# Altium integrated library TI_Logic_Specialty_Logic.IntLib: 2504 symbols (part 45 of 81)
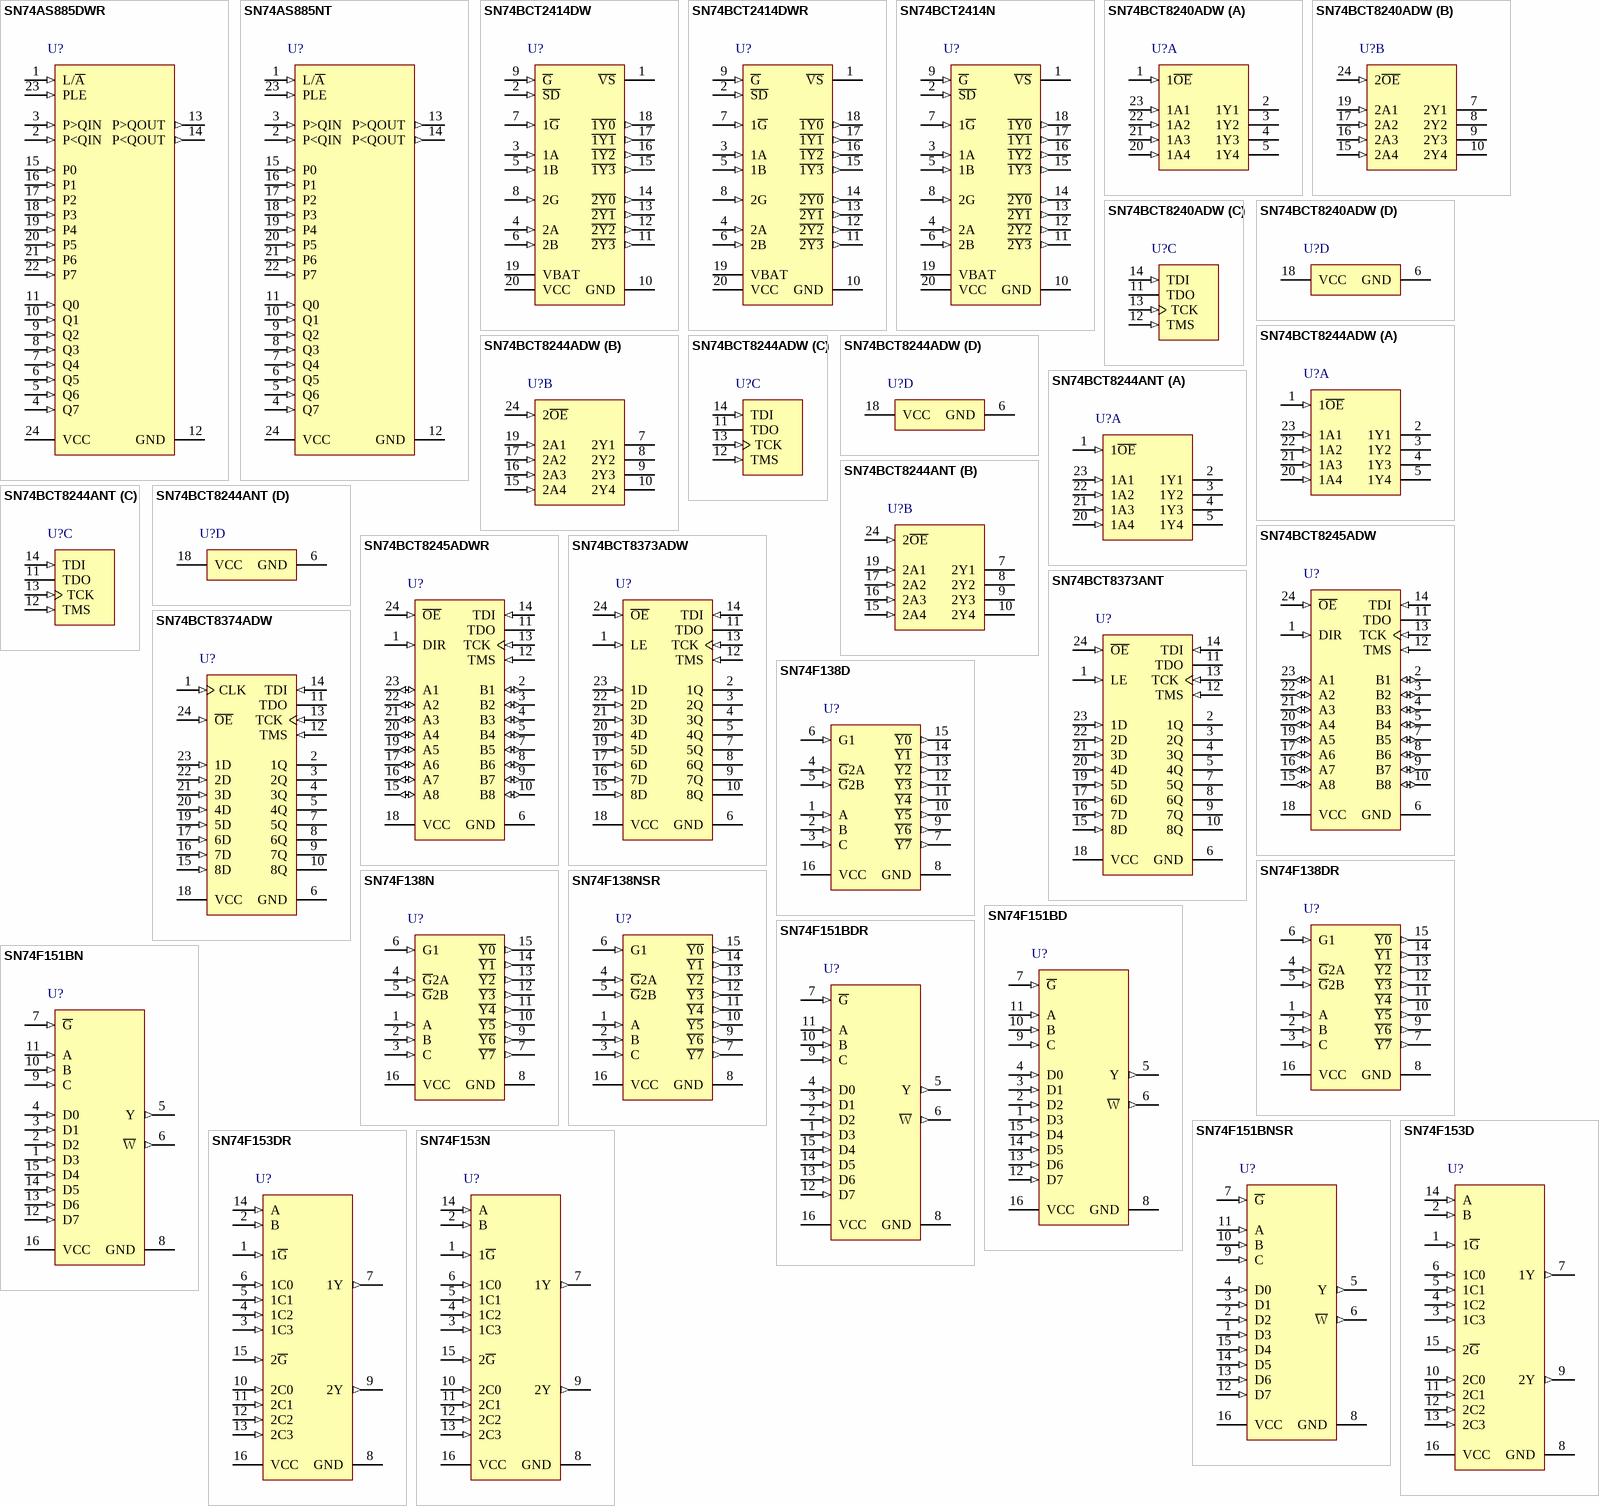
[diagram p148: symbols SN74AS885DWR to SN74F153N]

## SN74BCT8373ANT
designator U?
IEEE Std 1149.1 (JTAG) Boundary-Scan Test Device With Octal D-Type Latches, NT0024A, TUBE; Generic Part Number: SN74BCT8373A; Manufacturer: Texas Instruments; PartNumber: SN74BCT8373ANT; VCC(Min)(V): 4.5; VCC(Max)(V): 5.5; Output Type: TTL; ICC @ Nom Voltage(Max)(mA): 52; Bits(#): 8; F @ Nom Voltage(Max)(Mhz): 70; Rating: Catalog; Technology Family: BCT; Voltage(Nom)(V): 5; Output Drive (IOL/IOH)(Max)(mA): 64/-15; Output Logic: True; tpd @ Nom Voltage(Max)(ns): 9.5; DatasheetVersion: SCBS044F; PackageReference: NT0024A; Supplier 1: Mouser; Supplier Part Number 1: 595-SN74BCT8373ANT; Supplier 2: Digi-Key; Supplier Part Number 2: 296-33848-5-ND; Input Type: TTL; Operating Temperature Range(C): 0 to 70; ComponentLink1Description: Manufacturer URL; ComponentLink1URL: http://www.ti.com/; ComponentLink2Description: Datasheet; ComponentLink2URL: http://www.ti.com/lit/ds/symlink/sn74bct8373a.pdf
footprint NT0024A (DIP, 24-Leads, Body 32.05x7.1mm, Pitch 2.54mm)
pins: 1 LE (in) "Normal-function latch-enable input. See function table for normal-mode logic. An internal pullup forces LE to a high level if left unconnected.", 2 1Q (hiz) "Normal-function data outputs. See function table for normal-mode logic", 3 2Q (hiz) "Normal-function data outputs. See function table for normal-mode logic", 4 3Q (hiz) "Normal-function data outputs. See function table for normal-mode logic", 5 4Q (hiz) "Normal-function data outputs. See function table for normal-mode logic", 6 GND (power) "Ground", 7 5Q (hiz) "Normal-function data outputs. See function table for normal-mode logic", 8 6Q (hiz) "Normal-function data outputs. See function table for normal-mode logic", 9 7Q (hiz) "Normal-function data outputs. See function table for normal-mode logic", 10 8Q (hiz) "Normal-function data outputs. See function table for normal-mode logic", 11 TDO (hiz) "Test data output. One of four terminals required by IEEE Standard 1149.1-1990. TDO is the serial output for shifting data through the instruction register or selected data register. An internal pullup forces TDO to a high (See Datasheet)", 12 TMS (in) "Test mode select. One of four terminals required by IEEE Standard 1149.1-1990. TMS directs the device through its TAP controller states. An internal pullup forces TMS to a high level if left unconnected. The TMS pin also (See Datasheet)", 13 TCK (in) "Test clock. One of four terminals required by IEEE Standard 1149.1-1990. Test operations of the device are synchronous to TCK. Data is captured on the rising edge of TCK and outputs change on the falling edge of TCK. An (See Datasheet)", 14 TDI (in) "Test data input. One of four terminals required by IEEE Standard 1149.1-1990. TDI is the serial input for shifting data through the instruction register or selected data register. An internal pullup forces TDI to a high (See Datasheet)", 15 8D (in) "Normal-function data inputs. See function table for normal-mode logic. Internal pullups force these inputs to a high level if left unconnected.", 16 7D (in) "Normal-function data inputs. See function table for normal-mode logic. Internal pullups force these inputs to a high level if left unconnected.", 17 6D (in) "Normal-function data inputs. See function table for normal-mode logic. Internal pullups force these inputs to a high level if left unconnected.", 18 VCC (power) "Supply voltage", 19 5D (in) "Normal-function data inputs. See function table for normal-mode logic. Internal pullups force these inputs to a high level if left unconnected.", 20 4D (in) "Normal-function data inputs. See function table for normal-mode logic. Internal pullups force these inputs to a high level if left unconnected.", 21 3D (in) "Normal-function data inputs. See function table for normal-mode logic. Internal pullups force these inputs to a high level if left unconnected.", 22 2D (in) "Normal-function data inputs. See function table for normal-mode logic. Internal pullups force these inputs to a high level if left unconnected.", 23 1D (in) "Normal-function data inputs. See function table for normal-mode logic. Internal pullups force these inputs to a high level if left unconnected.", 24 ~{OE} (in) "Normal-function output-enable input. See function table for normal-mode logic. An internal pullup forces O\E\ to a high level if left unconnected."

## SN74BCT8374ADW
designator U?
Scan Test Device With Octal D-Type Edge-Triggered Flip-Flops, DW0024A, TUBE; Generic Part Number: SN74BCT8374A; Manufacturer: Texas Instruments; PartNumber: SN74BCT8374ADW; VCC(Min)(V): 4.5; VCC(Max)(V): 5.5; Output Type: TTL; ICC @ Nom Voltage(Max)(mA): 52; Bits(#): 8; F @ Nom Voltage(Max)(Mhz): 70; Rating: Catalog; Technology Family: BCT; Voltage(Nom)(V): 5; Output Drive (IOL/IOH)(Max)(mA): 64/-15; Output Logic: True; tpd @ Nom Voltage(Max)(ns): 10; DatasheetVersion: SCBS045E; PackageReference: DW0024A; Supplier 1: Mouser; Supplier Part Number 1: 595-SN74BCT8374ADW; Supplier 2: Digi-Key; Supplier Part Number 2: 296-33849-5-ND; Input Type: TTL; Operating Temperature Range(C): 0 to 70; ComponentLink1Description: Manufacturer URL; ComponentLink1URL: http://www.ti.com/; ComponentLink2Description: Datasheet; ComponentLink2URL: http://www.ti.com/lit/ds/symlink/sn74bct8374a.pdf
footprint DW0024A_N (SOIC, 24-Leads, Body 15.6x7.6mm, Pitch 1.27mm, IPC Medium Density)
footprint DW0024A_M (SOIC, 24-Leads, Body 15.6x7.6mm, Pitch 1.27mm, IPC Low Density)
footprint DW0024A_L (SOIC, 24-Leads, Body 15.6x7.6mm, Pitch 1.27mm, IPC High Density)
pins: 1 CLK (in) "Normal-function clock input. See function table for normal-mode logic. An internal pullup forces CLK to a high level if left unconnected.", 2 1Q (hiz) "Normal-function data outputs. See function table for normal-mode logic.", 3 2Q (hiz) "Normal-function data outputs. See function table for normal-mode logic.", 4 3Q (hiz) "Normal-function data outputs. See function table for normal-mode logic.", 5 4Q (hiz) "Normal-function data outputs. See function table for normal-mode logic.", 6 GND (power) "Ground", 7 5Q (hiz) "Normal-function data outputs. See function table for normal-mode logic.", 8 6Q (hiz) "Normal-function data outputs. See function table for normal-mode logic.", 9 7Q (hiz) "Normal-function data outputs. See function table for normal-mode logic.", 10 8Q (hiz) "Normal-function data outputs. See function table for normal-mode logic.", 11 TDO (hiz) "Test data output. One of four terminals required by IEEE Standard 1149.1-1990. TDO is the serial output for shifting data through the instruction register or selected data register. An internal pullup forces TDO to a high (See Datasheet)", 12 TMS (in) "Test mode select. One of four terminals required by IEEE Standard 1149.1-1990. TMS directs the device through its TAP controller states. An internal pullup forces TMS to a high level if left unconnected. TMS also provides (See Datasheet)", 13 TCK (in) "Test clock. One of four terminals required by IEEE Standard 1149.1-1990. Test operations of the device are synchronous to TCK. Data is captured on the rising edge of TCK and outputs change on the falling edge of TCK. An (See Datasheet)", 14 TDI (in) "Test data input. One of four terminals required by IEEE Standard 1149.1-1990. TDI is the serial input for shifting data through the instruction register or selected data register. An internal pullup forces TDI to a high (See Datasheet)", 15 8D (in) "Normal-function data inputs. See function table for normal-mode logic. Internal pullups force these inputs to a high level if left unconnected.", 16 7D (in) "Normal-function data inputs. See function table for normal-mode logic. Internal pullups force these inputs to a high level if left unconnected.", 17 6D (in) "Normal-function data inputs. See function table for normal-mode logic. Internal pullups force these inputs to a high level if left unconnected.", 18 VCC (power) "Supply voltage", 19 5D (in) "Normal-function data inputs. See function table for normal-mode logic. Internal pullups force these inputs to a high level if left unconnected.", 20 4D (in) "Normal-function data inputs. See function table for normal-mode logic. Internal pullups force these inputs to a high level if left unconnected.", 21 3D (in) "Normal-function data inputs. See function table for normal-mode logic. Internal pullups force these inputs to a high level if left unconnected.", 22 2D (in) "Normal-function data inputs. See function table for normal-mode logic. Internal pullups force these inputs to a high level if left unconnected.", 23 1D (in) "Normal-function data inputs. See function table for normal-mode logic. Internal pullups force these inputs to a high level if left unconnected.", 24 ~{OE} (in) "Normal-function output-enable input. See function table for normal-mode logic. An internal pullup forces OE to a high level if left unconnected."

## SN74F138D
designator U?
3-line to 8-line decoder / demultiplexer, D0016A, TUBE; Generic Part Number: SN74F138; Manufacturer: Texas Instruments; PartNumber: SN74F138D; VCC(Min)(V): 4.5; VCC(Max)(V): 5.5; ICC @ Nom Voltage(Max)(mA): 20; F @ Nom Voltage(Max)(Mhz): 70; Configuration: 3：8; Channels(#): 1; Rating: Military; Technology Family: F; Voltage(Nom)(V): 5; Schmitt Trigger: No; Output Drive (IOL/IOH)(Max)(mA): 20/-1; tpd @ Nom Voltage(Max)(ns): 9; DatasheetVersion: SDFS051B; PackageReference: D0016A; Supplier 1: Mouser; Supplier Part Number 1: 595-SN74F138D; Supplier 2: Digi-Key; Supplier Part Number 2: 296-3551-5-ND; Function: Decoder/Demultiplexer; Operating Temperature Range(C): 0 to 70; Type: Standard; Code_JEDEC: MS-012 variation AC; ComponentLink1Description: Manufacturer URL; ComponentLink1URL: http://www.ti.com/; ComponentLink2Description: Datasheet; ComponentLink2URL: http://www.ti.com/lit/ds/symlink/sn74f138.pdf; ComponentLink3Description: Package Specification; ComponentLink3URL: http://www.ti.com/lit/ml/mpds178g/mpds178g.pdf
footprint D0016A_N (SOIC, 16-Leads, Body 10x4mm, Pitch 1.27mm, IPC Medium Density)
footprint D0016A_M (SOIC, 16-Leads, Body 10x4mm, Pitch 1.27mm, IPC Low Density)
footprint D0016A_L (SOIC, 16-Leads, Body 10x4mm, Pitch 1.27mm, IPC High Density)
pins: 1 A (in), 2 B (in), 3 C (in), 4 ~{G}2A (in), 5 ~{G}2B (in), 6 G1 (in), 7 ~{Y7} (out), 8 GND (power), 9 ~{Y6} (out), 10 ~{Y5} (out), 11 ~{Y4} (out), 12 ~{Y3} (out), 13 ~{Y2} (out), 14 ~{Y1} (out), 15 ~{Y0} (out), 16 VCC (power)

## SN74F138DR
designator U?
3-line to 8-line decoder / demultiplexer, D0016A, LARGE T&R; Generic Part Number: SN74F138; Manufacturer: Texas Instruments; PartNumber: SN74F138DR; VCC(Min)(V): 4.5; VCC(Max)(V): 5.5; ICC @ Nom Voltage(Max)(mA): 20; F @ Nom Voltage(Max)(Mhz): 70; Configuration: 3：8; Channels(#): 1; Rating: Military; Technology Family: F; Voltage(Nom)(V): 5; Schmitt Trigger: No; Output Drive (IOL/IOH)(Max)(mA): 20/-1; tpd @ Nom Voltage(Max)(ns): 9; DatasheetVersion: SDFS051B; PackageReference: D0016A; Supplier 1: Mouser; Supplier Part Number 1: 595-SN74F138DR; Supplier 2: Digi-Key; Supplier Part Number 2: 296-14805-2-ND; Supplier 3: Digi-Key; Supplier Part Number 3: 296-14805-1-ND; Supplier 4: Digi-Key; Supplier Part Number 4: 296-14805-6-ND; Function: Decoder/Demultiplexer; Operating Temperature Range(C): 0 to 70; Type: Standard; Code_JEDEC: MS-012 variation AC; ComponentLink1Description: Manufacturer URL; ComponentLink1URL: http://www.ti.com/; ComponentLink2Description: Datasheet; ComponentLink2URL: http://www.ti.com/lit/ds/symlink/sn74f138.pdf; ComponentLink3Description: Package Specification; ComponentLink3URL: http://www.ti.com/lit/ml/mpds178g/mpds178g.pdf
footprint D0016A_N (SOIC, 16-Leads, Body 10x4mm, Pitch 1.27mm, IPC Medium Density)
footprint D0016A_M (SOIC, 16-Leads, Body 10x4mm, Pitch 1.27mm, IPC Low Density)
footprint D0016A_L (SOIC, 16-Leads, Body 10x4mm, Pitch 1.27mm, IPC High Density)
pins: 1 A (in), 2 B (in), 3 C (in), 4 ~{G}2A (in), 5 ~{G}2B (in), 6 G1 (in), 7 ~{Y7} (out), 8 GND (power), 9 ~{Y6} (out), 10 ~{Y5} (out), 11 ~{Y4} (out), 12 ~{Y3} (out), 13 ~{Y2} (out), 14 ~{Y1} (out), 15 ~{Y0} (out), 16 VCC (power)

## SN74F138N
designator U?
3-line to 8-line decoder / demultiplexer, N0016A, TUBE; Generic Part Number: SN74F138; Manufacturer: Texas Instruments; PartNumber: SN74F138N; VCC(Min)(V): 4.5; VCC(Max)(V): 5.5; ICC @ Nom Voltage(Max)(mA): 20; F @ Nom Voltage(Max)(Mhz): 70; Configuration: 3：8; Channels(#): 1; Rating: Military; Technology Family: F; Voltage(Nom)(V): 5; Schmitt Trigger: No; Output Drive (IOL/IOH)(Max)(mA): 20/-1; tpd @ Nom Voltage(Max)(ns): 9; DatasheetVersion: SDFS051B; PackageReference: N0016A; Supplier 1: Mouser; Supplier Part Number 1: 595-SN74F138N; Supplier 2: Digi-Key; Supplier Part Number 2: 296-3552-5-ND; Function: Decoder/Demultiplexer; Operating Temperature Range(C): 0 to 70; Type: Standard; Code_JEDEC: MS-001; ComponentLink1Description: Manufacturer URL; ComponentLink1URL: http://www.ti.com/; ComponentLink2Description: Datasheet; ComponentLink2URL: http://www.ti.com/lit/ds/symlink/sn74f138.pdf; ComponentLink3Description: Package Specification; ComponentLink3URL: http://www.ti.com/lit/ml/mpdi002c/mpdi002c.pdf
footprint N0016A (DIP, 16-Leads, Body 19.7x6.6mm, Pitch 2.54mm)
pins: 1 A (in), 2 B (in), 3 C (in), 4 ~{G}2A (in), 5 ~{G}2B (in), 6 G1 (in), 7 ~{Y7} (out), 8 GND (power), 9 ~{Y6} (out), 10 ~{Y5} (out), 11 ~{Y4} (out), 12 ~{Y3} (out), 13 ~{Y2} (out), 14 ~{Y1} (out), 15 ~{Y0} (out), 16 VCC (power)

## SN74F138NSR
designator U?
3-line to 8-line decoder / demultiplexer, NS0016A, LARGE T&R; Generic Part Number: SN74F138; Manufacturer: Texas Instruments; PartNumber: SN74F138NSR; VCC(Min)(V): 4.5; VCC(Max)(V): 5.5; ICC @ Nom Voltage(Max)(mA): 20; F @ Nom Voltage(Max)(Mhz): 70; Configuration: 3：8; Channels(#): 1; Rating: Military; Technology Family: F; Voltage(Nom)(V): 5; Schmitt Trigger: No; Output Drive (IOL/IOH)(Max)(mA): 20/-1; tpd @ Nom Voltage(Max)(ns): 9; DatasheetVersion: SDFS051B; PackageReference: NS0016A; Supplier 1: Mouser; Supplier Part Number 1: 595-SN74F138NSR; Supplier 2: Digi-Key; Supplier Part Number 2: 296-24981-2-ND; Supplier 3: Digi-Key; Supplier Part Number 3: 296-24981-1-ND; Supplier 4: Digi-Key; Supplier Part Number 4: 296-24981-6-ND; Function: Decoder/Demultiplexer; Operating Temperature Range(C): 0 to 70; Type: Standard; ComponentLink1Description: Manufacturer URL; ComponentLink1URL: http://www.ti.com/; ComponentLink2Description: Datasheet; ComponentLink2URL: http://www.ti.com/lit/ds/symlink/sn74f138.pdf; ComponentLink3Description: Package Specification; ComponentLink3URL: http://www.ti.com/lit/ml/msop002a/msop002a.pdf
footprint NS0016A_N (SOIC,16-Leads,Body 10.5x5.6mm,Pitch 1.27mm,IPC Medium Density)
footprint NS0016A_M (SOIC,16-Leads,Body 10.5x5.6mm,Pitch 1.27mm,IPC Low Density)
footprint NS0016A_L (SOIC,16-Leads,Body 10.5x5.6mm,Pitch 1.27mm,IPC High Density)
pins: 1 A (in), 2 B (in), 3 C (in), 4 ~{G}2A (in), 5 ~{G}2B (in), 6 G1 (in), 7 ~{Y7} (out), 8 GND (power), 9 ~{Y6} (out), 10 ~{Y5} (out), 11 ~{Y4} (out), 12 ~{Y3} (out), 13 ~{Y2} (out), 14 ~{Y1} (out), 15 ~{Y0} (out), 16 VCC (power)

## SN74F151BD
designator U?
8-Line To 1-Line Data Selector/Multiplexer, D0016A, TUBE; Generic Part Number: SN74F151B; Manufacturer: Texas Instruments; PartNumber: SN74F151BD; VCC(Min)(V): 4.5; VCC(Max)(V): 5.5; Function: Encoder/Multiplexer; ICC @ Nom Voltage(Max)(mA): 21; F @ Nom Voltage(Max)(Mhz): 70; Configuration: 8：1; Channels(#): 1; Rating: Catalog; Technology Family: F; Voltage(Nom)(V): 5; Schmitt Trigger: No; Output Drive (IOL/IOH)(Max)(mA): 24/-1; tpd @ Nom Voltage(Max)(ns): 9.5; DatasheetVersion: SDFS023A; PackageReference: D0016A; Supplier 1: Mouser; Supplier Part Number 1: 595-SN74F151BD; Supplier 2: Digi-Key; Supplier Part Number 2: 296-3553-5-ND; Operating Temperature Range(C): 0 to 70; Type: Standard; Code_JEDEC: MS-012 variation AC; ComponentLink1Description: Manufacturer URL; ComponentLink1URL: http://www.ti.com/; ComponentLink2Description: Datasheet; ComponentLink2URL: http://www.ti.com/lit/ds/symlink/sn74f151b.pdf; ComponentLink3Description: Package Specification; ComponentLink3URL: http://www.ti.com/lit/ml/mpds178g/mpds178g.pdf
footprint D0016A_N (SOIC, 16-Leads, Body 10x4mm, Pitch 1.27mm, IPC Medium Density)
footprint D0016A_M (SOIC, 16-Leads, Body 10x4mm, Pitch 1.27mm, IPC Low Density)
footprint D0016A_L (SOIC, 16-Leads, Body 10x4mm, Pitch 1.27mm, IPC High Density)
pins: 1 D3 (in), 2 D2 (in), 3 D1 (in), 4 D0 (in), 5 Y (out), 6 ~{W} (out), 7 ~{G} (in), 8 GND (power), 9 C (in), 10 B (in), 11 A (in), 12 D7 (in), 13 D6 (in), 14 D5 (in), 15 D4 (in), 16 VCC (power)

## SN74F151BDR
designator U?
8-Line To 1-Line Data Selector/Multiplexer, D0016A, LARGE T&R; Generic Part Number: SN74F151B; Manufacturer: Texas Instruments; PartNumber: SN74F151BDR; VCC(Min)(V): 4.5; VCC(Max)(V): 5.5; Function: Encoder/Multiplexer; ICC @ Nom Voltage(Max)(mA): 21; F @ Nom Voltage(Max)(Mhz): 70; Configuration: 8：1; Channels(#): 1; Rating: Catalog; Technology Family: F; Voltage(Nom)(V): 5; Schmitt Trigger: No; Output Drive (IOL/IOH)(Max)(mA): 24/-1; tpd @ Nom Voltage(Max)(ns): 9.5; DatasheetVersion: SDFS023A; PackageReference: D0016A; Supplier 1: Mouser; Supplier Part Number 1: 595-SN74F151BDR; Supplier 2: Digi-Key; Supplier Part Number 2: 296-14806-2-ND; Supplier 3: Digi-Key; Supplier Part Number 3: 296-14806-1-ND; Supplier 4: Digi-Key; Supplier Part Number 4: 296-14806-6-ND; Operating Temperature Range(C): 0 to 70; Type: Standard; Code_JEDEC: MS-012 variation AC; ComponentLink1Description: Manufacturer URL; ComponentLink1URL: http://www.ti.com/; ComponentLink2Description: Datasheet; ComponentLink2URL: http://www.ti.com/lit/ds/symlink/sn74f151b.pdf; ComponentLink3Description: Package Specification; ComponentLink3URL: http://www.ti.com/lit/ml/mpds178g/mpds178g.pdf
footprint D0016A_N (SOIC, 16-Leads, Body 10x4mm, Pitch 1.27mm, IPC Medium Density)
footprint D0016A_M (SOIC, 16-Leads, Body 10x4mm, Pitch 1.27mm, IPC Low Density)
footprint D0016A_L (SOIC, 16-Leads, Body 10x4mm, Pitch 1.27mm, IPC High Density)
pins: 1 D3 (in), 2 D2 (in), 3 D1 (in), 4 D0 (in), 5 Y (out), 6 ~{W} (out), 7 ~{G} (in), 8 GND (power), 9 C (in), 10 B (in), 11 A (in), 12 D7 (in), 13 D6 (in), 14 D5 (in), 15 D4 (in), 16 VCC (power)

## SN74F151BN
designator U?
8-Line To 1-Line Data Selector/Multiplexer, N0016A, TUBE; Generic Part Number: SN74F151B; Manufacturer: Texas Instruments; PartNumber: SN74F151BN; VCC(Min)(V): 4.5; VCC(Max)(V): 5.5; Function: Encoder/Multiplexer; ICC @ Nom Voltage(Max)(mA): 21; F @ Nom Voltage(Max)(Mhz): 70; Configuration: 8：1; Channels(#): 1; Rating: Catalog; Technology Family: F; Voltage(Nom)(V): 5; Schmitt Trigger: No; Output Drive (IOL/IOH)(Max)(mA): 24/-1; tpd @ Nom Voltage(Max)(ns): 9.5; DatasheetVersion: SDFS023A; PackageReference: N0016A; Supplier 1: Mouser; Supplier Part Number 1: 595-SN74F151BN; Supplier 2: Digi-Key; Supplier Part Number 2: 296-33894-5-ND; Operating Temperature Range(C): 0 to 70; Type: Standard; Code_JEDEC: MS-001; ComponentLink1Description: Manufacturer URL; ComponentLink1URL: http://www.ti.com/; ComponentLink2Description: Datasheet; ComponentLink2URL: http://www.ti.com/lit/ds/symlink/sn74f151b.pdf; ComponentLink3Description: Package Specification; ComponentLink3URL: http://www.ti.com/lit/ml/mpdi002c/mpdi002c.pdf
footprint N0016A (DIP, 16-Leads, Body 19.7x6.6mm, Pitch 2.54mm)
pins: 1 D3 (in), 2 D2 (in), 3 D1 (in), 4 D0 (in), 5 Y (out), 6 ~{W} (out), 7 ~{G} (in), 8 GND (power), 9 C (in), 10 B (in), 11 A (in), 12 D7 (in), 13 D6 (in), 14 D5 (in), 15 D4 (in), 16 VCC (power)

## SN74F151BNSR
designator U?
8-Line To 1-Line Data Selector/Multiplexer, NS0016A, LARGE T&R; Generic Part Number: SN74F151B; Manufacturer: Texas Instruments; PartNumber: SN74F151BNSR; VCC(Min)(V): 4.5; VCC(Max)(V): 5.5; Function: Encoder/Multiplexer; ICC @ Nom Voltage(Max)(mA): 21; F @ Nom Voltage(Max)(Mhz): 70; Configuration: 8：1; Channels(#): 1; Rating: Catalog; Technology Family: F; Voltage(Nom)(V): 5; Schmitt Trigger: No; Output Drive (IOL/IOH)(Max)(mA): 24/-1; tpd @ Nom Voltage(Max)(ns): 9.5; DatasheetVersion: SDFS023A; PackageReference: NS0016A; Supplier 1: Mouser; Supplier Part Number 1: 595-SN74F151BNSR; Supplier 2: Digi-Key; Supplier Part Number 2: SN74F151BNSR-ND; Operating Temperature Range(C): 0 to 70; Type: Standard; ComponentLink1Description: Manufacturer URL; ComponentLink1URL: http://www.ti.com/; ComponentLink2Description: Datasheet; ComponentLink2URL: http://www.ti.com/lit/ds/symlink/sn74f151b.pdf; ComponentLink3Description: Package Specification; ComponentLink3URL: http://www.ti.com/lit/ml/msop002a/msop002a.pdf
footprint NS0016A_N (SOIC,16-Leads,Body 10.5x5.6mm,Pitch 1.27mm,IPC Medium Density)
footprint NS0016A_M (SOIC,16-Leads,Body 10.5x5.6mm,Pitch 1.27mm,IPC Low Density)
footprint NS0016A_L (SOIC,16-Leads,Body 10.5x5.6mm,Pitch 1.27mm,IPC High Density)
pins: 1 D3 (in), 2 D2 (in), 3 D1 (in), 4 D0 (in), 5 Y (out), 6 ~{W} (out), 7 ~{G} (in), 8 GND (power), 9 C (in), 10 B (in), 11 A (in), 12 D7 (in), 13 D6 (in), 14 D5 (in), 15 D4 (in), 16 VCC (power)

## SN74F153D
designator U?
Dual 1-of-4 Data Selectors/Multiplexers, D0016A, TUBE; Generic Part Number: SN74F153; Manufacturer: Texas Instruments; PartNumber: SN74F153D; VCC(Min)(V): 4.5; VCC(Max)(V): 5.5; Function: Encoder/Multiplexer; ICC @ Nom Voltage(Max)(mA): 20; F @ Nom Voltage(Max)(Mhz): 70; Configuration: 4：1; Channels(#): 2; Rating: Catalog; Technology Family: F; Voltage(Nom)(V): 5; Schmitt Trigger: No; Output Drive (IOL/IOH)(Max)(mA): 20/-1; tpd @ Nom Voltage(Max)(ns): 12; DatasheetVersion: SDFS052A; PackageReference: D0016A; Supplier 1: Mouser; Supplier Part Number 1: 595-SN74F153D; Supplier 2: Digi-Key; Supplier Part Number 2: 296-3554-5-ND; Operating Temperature Range(C): 0 to 70; Type: Standard; Code_JEDEC: MS-012 variation AC; ComponentLink1Description: Manufacturer URL; ComponentLink1URL: http://www.ti.com/; ComponentLink2Description: Datasheet; ComponentLink2URL: http://www.ti.com/lit/ds/symlink/sn74f153.pdf; ComponentLink3Description: Package Specification; ComponentLink3URL: http://www.ti.com/lit/ml/mpds178g/mpds178g.pdf
footprint D0016A_N (SOIC, 16-Leads, Body 10x4mm, Pitch 1.27mm, IPC Medium Density)
footprint D0016A_M (SOIC, 16-Leads, Body 10x4mm, Pitch 1.27mm, IPC Low Density)
footprint D0016A_L (SOIC, 16-Leads, Body 10x4mm, Pitch 1.27mm, IPC High Density)
pins: 1 1~{G} (in), 2 B (in), 3 1C3 (in), 4 1C2 (in), 5 1C1 (in), 6 1C0 (in), 7 1Y (out), 8 GND (power), 9 2Y (out), 10 2C0 (in), 11 2C1 (in), 12 2C2 (in), 13 2C3 (in), 14 A (in), 15 2~{G} (in), 16 VCC (power)

## SN74F153DR
designator U?
Dual 1-of-4 Data Selectors/Multiplexers, D0016A, LARGE T&R; Generic Part Number: SN74F153; Manufacturer: Texas Instruments; PartNumber: SN74F153DR; VCC(Min)(V): 4.5; VCC(Max)(V): 5.5; Function: Encoder/Multiplexer; ICC @ Nom Voltage(Max)(mA): 20; F @ Nom Voltage(Max)(Mhz): 70; Configuration: 4：1; Channels(#): 2; Rating: Catalog; Technology Family: F; Voltage(Nom)(V): 5; Schmitt Trigger: No; Output Drive (IOL/IOH)(Max)(mA): 20/-1; tpd @ Nom Voltage(Max)(ns): 12; DatasheetVersion: SDFS052A; PackageReference: D0016A; Supplier 1: Mouser; Supplier Part Number 1: 595-SN74F153DR; Supplier 2: Digi-Key; Supplier Part Number 2: 296-14807-2-ND; Supplier 3: Digi-Key; Supplier Part Number 3: 296-14807-1-ND; Supplier 4: Digi-Key; Supplier Part Number 4: 296-14807-6-ND; Operating Temperature Range(C): 0 to 70; Type: Standard; Code_JEDEC: MS-012 variation AC; ComponentLink1Description: Manufacturer URL; ComponentLink1URL: http://www.ti.com/; ComponentLink2Description: Datasheet; ComponentLink2URL: http://www.ti.com/lit/ds/symlink/sn74f153.pdf; ComponentLink3Description: Package Specification; ComponentLink3URL: http://www.ti.com/lit/ml/mpds178g/mpds178g.pdf
footprint D0016A_N (SOIC, 16-Leads, Body 10x4mm, Pitch 1.27mm, IPC Medium Density)
footprint D0016A_M (SOIC, 16-Leads, Body 10x4mm, Pitch 1.27mm, IPC Low Density)
footprint D0016A_L (SOIC, 16-Leads, Body 10x4mm, Pitch 1.27mm, IPC High Density)
pins: 1 1~{G} (in), 2 B (in), 3 1C3 (in), 4 1C2 (in), 5 1C1 (in), 6 1C0 (in), 7 1Y (out), 8 GND (power), 9 2Y (out), 10 2C0 (in), 11 2C1 (in), 12 2C2 (in), 13 2C3 (in), 14 A (in), 15 2~{G} (in), 16 VCC (power)

## SN74F153N
designator U?
Dual 1-of-4 Data Selectors/Multiplexers, N0016A, TUBE; Generic Part Number: SN74F153; Manufacturer: Texas Instruments; PartNumber: SN74F153N; VCC(Min)(V): 4.5; VCC(Max)(V): 5.5; Function: Encoder/Multiplexer; ICC @ Nom Voltage(Max)(mA): 20; F @ Nom Voltage(Max)(Mhz): 70; Configuration: 4：1; Channels(#): 2; Rating: Catalog; Technology Family: F; Voltage(Nom)(V): 5; Schmitt Trigger: No; Output Drive (IOL/IOH)(Max)(mA): 20/-1; tpd @ Nom Voltage(Max)(ns): 12; DatasheetVersion: SDFS052A; PackageReference: N0016A; Supplier 1: Mouser; Supplier Part Number 1: 595-SN74F153N; Supplier 2: Digi-Key; Supplier Part Number 2: 296-3555-5-ND; Operating Temperature Range(C): 0 to 70; Type: Standard; Code_JEDEC: MS-001; ComponentLink1Description: Manufacturer URL; ComponentLink1URL: http://www.ti.com/; ComponentLink2Description: Datasheet; ComponentLink2URL: http://www.ti.com/lit/ds/symlink/sn74f153.pdf; ComponentLink3Description: Package Specification; ComponentLink3URL: http://www.ti.com/lit/ml/mpdi002c/mpdi002c.pdf
footprint N0016A (DIP, 16-Leads, Body 19.7x6.6mm, Pitch 2.54mm)
pins: 1 1~{G} (in), 2 B (in), 3 1C3 (in), 4 1C2 (in), 5 1C1 (in), 6 1C0 (in), 7 1Y (out), 8 GND (power), 9 2Y (out), 10 2C0 (in), 11 2C1 (in), 12 2C2 (in), 13 2C3 (in), 14 A (in), 15 2~{G} (in), 16 VCC (power)

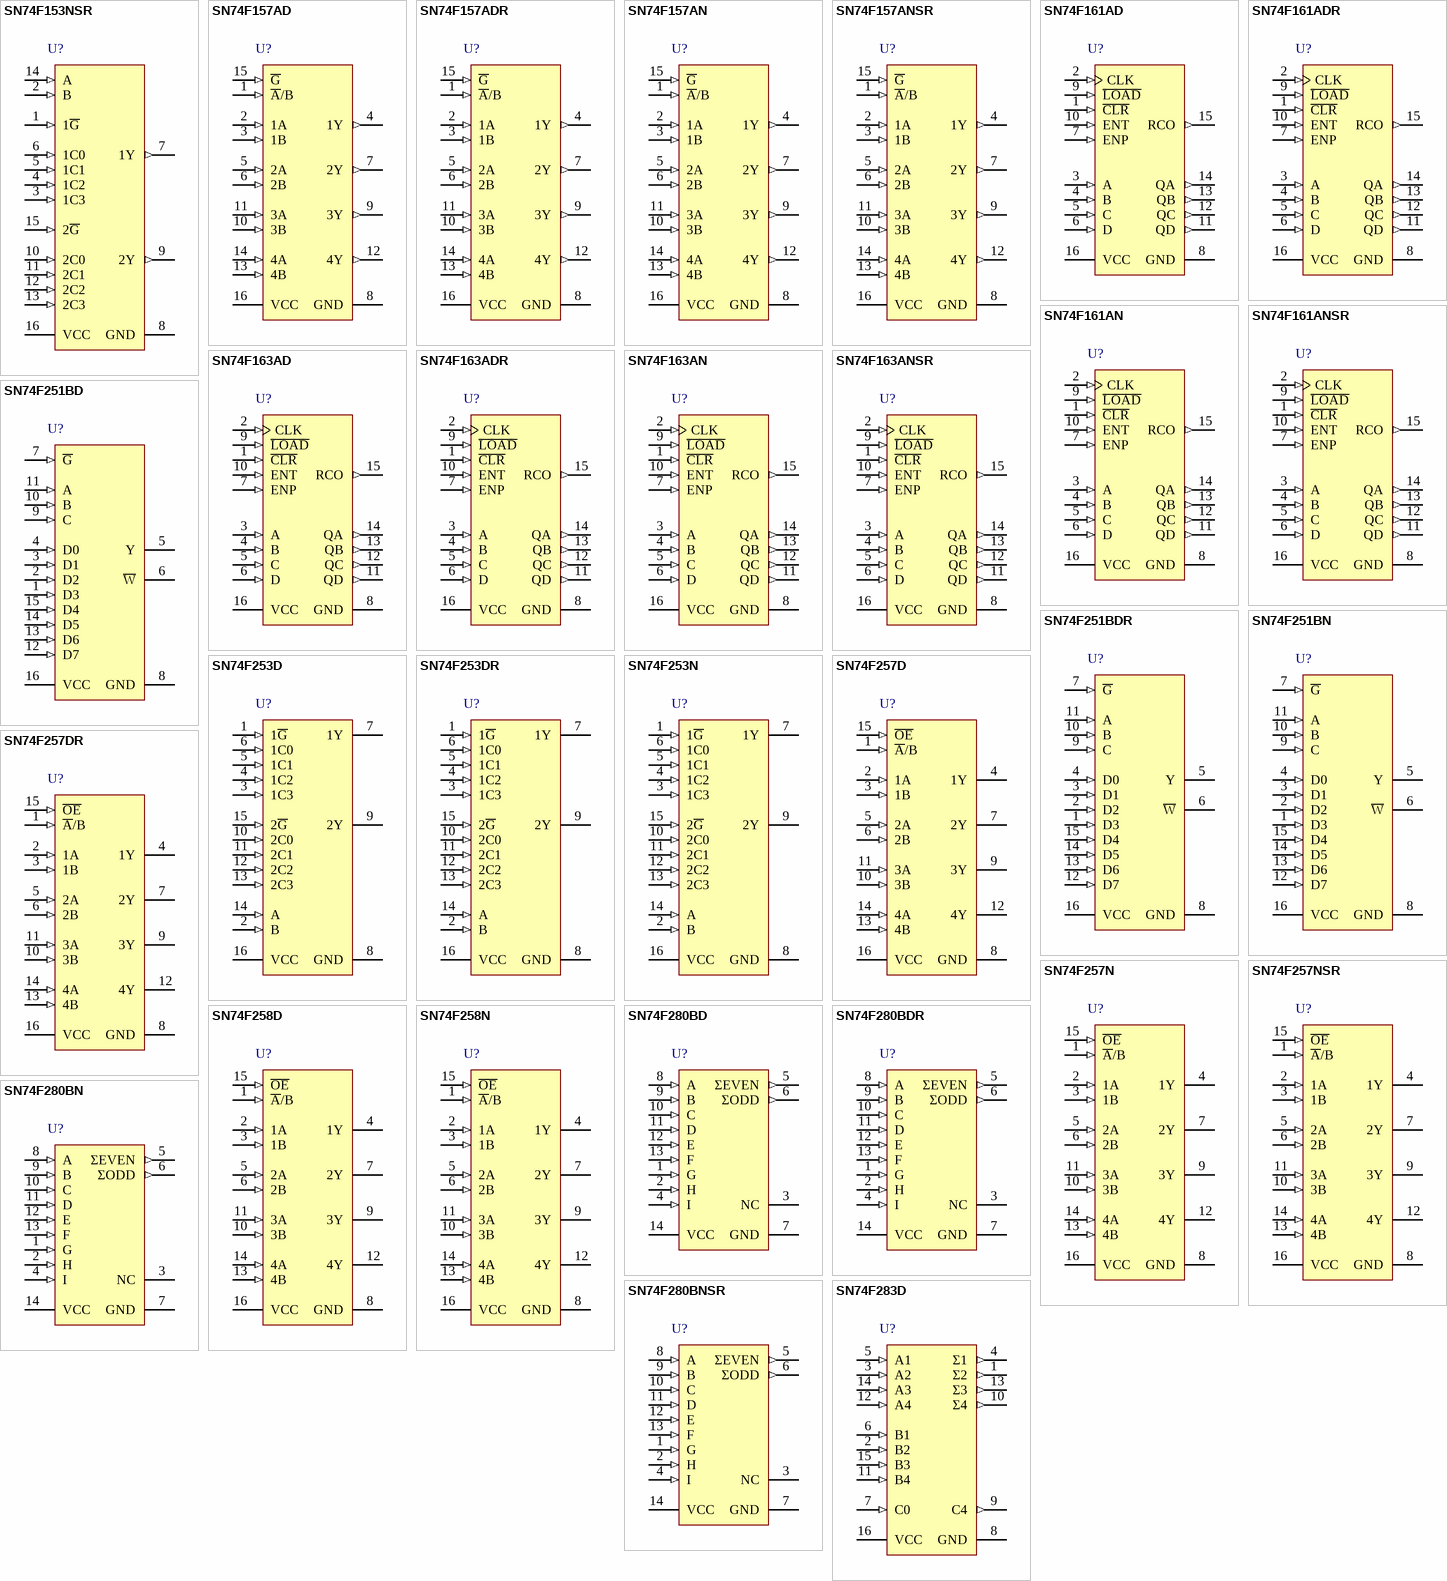
[diagram p58: symbols SN74F153NSR to SN74F283D]

## SN74F153NSR
designator U?
Dual 1-of-4 Data Selectors/Multiplexers, NS0016A, LARGE T&R; Generic Part Number: SN74F153; Manufacturer: Texas Instruments; PartNumber: SN74F153NSR; VCC(Min)(V): 4.5; VCC(Max)(V): 5.5; Function: Encoder/Multiplexer; ICC @ Nom Voltage(Max)(mA): 20; F @ Nom Voltage(Max)(Mhz): 70; Configuration: 4：1; Channels(#): 2; Rating: Catalog; Technology Family: F; Voltage(Nom)(V): 5; Schmitt Trigger: No; Output Drive (IOL/IOH)(Max)(mA): 20/-1; tpd @ Nom Voltage(Max)(ns): 12; DatasheetVersion: SDFS052A; PackageReference: NS0016A; Supplier 1: Mouser; Supplier Part Number 1: 595-SN74F153NSR; Supplier 2: Digi-Key; Supplier Part Number 2: 296-13184-2-ND; Supplier 3: Digi-Key; Supplier Part Number 3: 296-13184-1-ND; Supplier 4: Digi-Key; Supplier Part Number 4: 296-13184-6-ND; Operating Temperature Range(C): 0 to 70; Type: Standard; ComponentLink1Description: Manufacturer URL; ComponentLink1URL: http://www.ti.com/; ComponentLink2Description: Datasheet; ComponentLink2URL: http://www.ti.com/lit/ds/symlink/sn74f153.pdf; ComponentLink3Description: Package Specification; ComponentLink3URL: http://www.ti.com/lit/ml/msop002a/msop002a.pdf
footprint NS0016A_N (SOIC,16-Leads,Body 10.5x5.6mm,Pitch 1.27mm,IPC Medium Density)
footprint NS0016A_M (SOIC,16-Leads,Body 10.5x5.6mm,Pitch 1.27mm,IPC Low Density)
footprint NS0016A_L (SOIC,16-Leads,Body 10.5x5.6mm,Pitch 1.27mm,IPC High Density)
pins: 1 1~{G} (in), 2 B (in), 3 1C3 (in), 4 1C2 (in), 5 1C1 (in), 6 1C0 (in), 7 1Y (out), 8 GND (power), 9 2Y (out), 10 2C0 (in), 11 2C1 (in), 12 2C2 (in), 13 2C3 (in), 14 A (in), 15 2~{G} (in), 16 VCC (power)

## SN74F157AD
designator U?
Quadruple 2-Line To 1-Line Data Selectors/Multiplexers, D0016A, TUBE; Generic Part Number: SN74F157A; Manufacturer: Texas Instruments; PartNumber: SN74F157AD; VCC(Min)(V): 4.5; VCC(Max)(V): 5.5; Function: Encoder/Multiplexer; ICC @ Nom Voltage(Max)(mA): 23; F @ Nom Voltage(Max)(Mhz): 70; Configuration: 2：1; Channels(#): 4; Rating: Catalog; Technology Family: F; Voltage(Nom)(V): 5; Schmitt Trigger: No; Output Drive (IOL/IOH)(Max)(mA): 20/-1; tpd @ Nom Voltage(Max)(ns): 11; DatasheetVersion: SDFS053A; PackageReference: D0016A; Supplier 1: Mouser; Supplier Part Number 1: 595-SN74F157AD; Supplier 2: Digi-Key; Supplier Part Number 2: 296-3556-5-ND; Operating Temperature Range(C): 0 to 70; Type: Standard; Code_JEDEC: MS-012 variation AC; ComponentLink1Description: Manufacturer URL; ComponentLink1URL: http://www.ti.com/; ComponentLink2Description: Datasheet; ComponentLink2URL: http://www.ti.com/lit/ds/symlink/sn74f157a.pdf; ComponentLink3Description: Package Specification; ComponentLink3URL: http://www.ti.com/lit/ml/mpds178g/mpds178g.pdf
footprint D0016A_N (SOIC, 16-Leads, Body 10x4mm, Pitch 1.27mm, IPC Medium Density)
footprint D0016A_M (SOIC, 16-Leads, Body 10x4mm, Pitch 1.27mm, IPC Low Density)
footprint D0016A_L (SOIC, 16-Leads, Body 10x4mm, Pitch 1.27mm, IPC High Density)
pins: 1 ~{A}/B (in), 2 1A (in), 3 1B (in), 4 1Y (out), 5 2A (in), 6 2B (in), 7 2Y (out), 8 GND (power), 9 3Y (out), 10 3B (in), 11 3A (in), 12 4Y (out), 13 4B (in), 14 4A (in), 15 ~{G} (in), 16 VCC (power)

## SN74F157ADR
designator U?
Quadruple 2-Line To 1-Line Data Selectors/Multiplexers, D0016A, LARGE T&R; Generic Part Number: SN74F157A; Manufacturer: Texas Instruments; PartNumber: SN74F157ADR; VCC(Min)(V): 4.5; VCC(Max)(V): 5.5; Function: Encoder/Multiplexer; ICC @ Nom Voltage(Max)(mA): 23; F @ Nom Voltage(Max)(Mhz): 70; Configuration: 2：1; Channels(#): 4; Rating: Catalog; Technology Family: F; Voltage(Nom)(V): 5; Schmitt Trigger: No; Output Drive (IOL/IOH)(Max)(mA): 20/-1; tpd @ Nom Voltage(Max)(ns): 11; DatasheetVersion: SDFS053A; PackageReference: D0016A; Supplier 1: Mouser; Supplier Part Number 1: 595-SN74F157ADR; Supplier 2: Digi-Key; Supplier Part Number 2: 296-14808-2-ND; Supplier 3: Digi-Key; Supplier Part Number 3: 296-14808-1-ND; Supplier 4: Digi-Key; Supplier Part Number 4: 296-14808-6-ND; Operating Temperature Range(C): 0 to 70; Type: Standard; Code_JEDEC: MS-012 variation AC; ComponentLink1Description: Manufacturer URL; ComponentLink1URL: http://www.ti.com/; ComponentLink2Description: Datasheet; ComponentLink2URL: http://www.ti.com/lit/ds/symlink/sn74f157a.pdf; ComponentLink3Description: Package Specification; ComponentLink3URL: http://www.ti.com/lit/ml/mpds178g/mpds178g.pdf
footprint D0016A_N (SOIC, 16-Leads, Body 10x4mm, Pitch 1.27mm, IPC Medium Density)
footprint D0016A_M (SOIC, 16-Leads, Body 10x4mm, Pitch 1.27mm, IPC Low Density)
footprint D0016A_L (SOIC, 16-Leads, Body 10x4mm, Pitch 1.27mm, IPC High Density)
pins: 1 ~{A}/B (in), 2 1A (in), 3 1B (in), 4 1Y (out), 5 2A (in), 6 2B (in), 7 2Y (out), 8 GND (power), 9 3Y (out), 10 3B (in), 11 3A (in), 12 4Y (out), 13 4B (in), 14 4A (in), 15 ~{G} (in), 16 VCC (power)

## SN74F157AN
designator U?
Quadruple 2-Line To 1-Line Data Selectors/Multiplexers, N0016A, TUBE; Generic Part Number: SN74F157A; Manufacturer: Texas Instruments; PartNumber: SN74F157AN; VCC(Min)(V): 4.5; VCC(Max)(V): 5.5; Function: Encoder/Multiplexer; ICC @ Nom Voltage(Max)(mA): 23; F @ Nom Voltage(Max)(Mhz): 70; Configuration: 2：1; Channels(#): 4; Rating: Catalog; Technology Family: F; Voltage(Nom)(V): 5; Schmitt Trigger: No; Output Drive (IOL/IOH)(Max)(mA): 20/-1; tpd @ Nom Voltage(Max)(ns): 11; DatasheetVersion: SDFS053A; PackageReference: N0016A; Supplier 1: Mouser; Supplier Part Number 1: 595-SN74F157AN; Supplier 2: Digi-Key; Supplier Part Number 2: 296-1552-5-ND; Operating Temperature Range(C): 0 to 70; Type: Standard; Code_JEDEC: MS-001; ComponentLink1Description: Manufacturer URL; ComponentLink1URL: http://www.ti.com/; ComponentLink2Description: Datasheet; ComponentLink2URL: http://www.ti.com/lit/ds/symlink/sn74f157a.pdf; ComponentLink3Description: Package Specification; ComponentLink3URL: http://www.ti.com/lit/ml/mpdi002c/mpdi002c.pdf
footprint N0016A (DIP, 16-Leads, Body 19.7x6.6mm, Pitch 2.54mm)
pins: 1 ~{A}/B (in), 2 1A (in), 3 1B (in), 4 1Y (out), 5 2A (in), 6 2B (in), 7 2Y (out), 8 GND (power), 9 3Y (out), 10 3B (in), 11 3A (in), 12 4Y (out), 13 4B (in), 14 4A (in), 15 ~{G} (in), 16 VCC (power)

## SN74F157ANSR
designator U?
Quadruple 2-Line To 1-Line Data Selectors/Multiplexers, NS0016A, LARGE T&R; Generic Part Number: SN74F157A; Manufacturer: Texas Instruments; PartNumber: SN74F157ANSR; VCC(Min)(V): 4.5; VCC(Max)(V): 5.5; Function: Encoder/Multiplexer; ICC @ Nom Voltage(Max)(mA): 23; F @ Nom Voltage(Max)(Mhz): 70; Configuration: 2：1; Channels(#): 4; Rating: Catalog; Technology Family: F; Voltage(Nom)(V): 5; Schmitt Trigger: No; Output Drive (IOL/IOH)(Max)(mA): 20/-1; tpd @ Nom Voltage(Max)(ns): 11; DatasheetVersion: SDFS053A; PackageReference: NS0016A; Supplier 1: Mouser; Supplier Part Number 1: 595-SN74F157ANSR; Supplier 2: Digi-Key; Supplier Part Number 2: SN74F157ANSR-ND; Operating Temperature Range(C): 0 to 70; Type: Standard; ComponentLink1Description: Manufacturer URL; ComponentLink1URL: http://www.ti.com/; ComponentLink2Description: Datasheet; ComponentLink2URL: http://www.ti.com/lit/ds/symlink/sn74f157a.pdf; ComponentLink3Description: Package Specification; ComponentLink3URL: http://www.ti.com/lit/ml/msop002a/msop002a.pdf
footprint NS0016A_N (SOIC,16-Leads,Body 10.5x5.6mm,Pitch 1.27mm,IPC Medium Density)
footprint NS0016A_M (SOIC,16-Leads,Body 10.5x5.6mm,Pitch 1.27mm,IPC Low Density)
footprint NS0016A_L (SOIC,16-Leads,Body 10.5x5.6mm,Pitch 1.27mm,IPC High Density)
pins: 1 ~{A}/B (in), 2 1A (in), 3 1B (in), 4 1Y (out), 5 2A (in), 6 2B (in), 7 2Y (out), 8 GND (power), 9 3Y (out), 10 3B (in), 11 3A (in), 12 4Y (out), 13 4B (in), 14 4A (in), 15 ~{G} (in), 16 VCC (power)

## SN74F161AD
designator U?
Synchronous 4-Bit Binary Counter, D0016A, TUBE; Generic Part Number: SN74F161A; Manufacturer: Texas Instruments; PartNumber: SN74F161AD; VCC(Min)(V): 4.5; VCC(Max)(V): 5.5; Inputs: 1; ICC @ Nom Voltage(Max)(mA): 55; Bits(#): 4; F @ Nom Voltage(Max)(Mhz): 70; Rating: Catalog; Technology Family: F; Output Drive (IOL/IOH)(Max)(mA): 20/-1; tpd @ Nom Voltage(Max)(ns): 15; DatasheetVersion: SDFS056B; PackageReference: D0016A; Supplier 1: Mouser; Supplier Part Number 1: 595-SN74F161AD; Supplier 2: Digi-Key; Supplier Part Number 2: 296-3557-5-ND; Function: Counter; Operating Temperature Range(C): 0 to 70; Type: Binary; Code_JEDEC: MS-012 variation AC; ComponentLink1Description: Manufacturer URL; ComponentLink1URL: http://www.ti.com/; ComponentLink2Description: Datasheet; ComponentLink2URL: http://www.ti.com/lit/ds/symlink/sn74f161a.pdf; ComponentLink3Description: Package Specification; ComponentLink3URL: http://www.ti.com/lit/ml/mpds178g/mpds178g.pdf
footprint D0016A_N (SOIC, 16-Leads, Body 10x4mm, Pitch 1.27mm, IPC Medium Density)
footprint D0016A_M (SOIC, 16-Leads, Body 10x4mm, Pitch 1.27mm, IPC Low Density)
footprint D0016A_L (SOIC, 16-Leads, Body 10x4mm, Pitch 1.27mm, IPC High Density)
pins: 1 ~{CLR} (in), 2 CLK (in), 3 A (in), 4 B (in), 5 C (in), 6 D (in), 7 ENP (in), 8 GND (power), 9 ~{LOAD} (in), 10 ENT (in), 11 QD (out), 12 QC (out), 13 QB (out), 14 QA (out), 15 RCO (out), 16 VCC (power)

## SN74F161ADR
designator U?
Synchronous 4-Bit Binary Counter, D0016A, LARGE T&R; Generic Part Number: SN74F161A; Manufacturer: Texas Instruments; PartNumber: SN74F161ADR; VCC(Min)(V): 4.5; VCC(Max)(V): 5.5; Inputs: 1; ICC @ Nom Voltage(Max)(mA): 55; Bits(#): 4; F @ Nom Voltage(Max)(Mhz): 70; Rating: Catalog; Technology Family: F; Output Drive (IOL/IOH)(Max)(mA): 20/-1; tpd @ Nom Voltage(Max)(ns): 15; DatasheetVersion: SDFS056B; PackageReference: D0016A; Supplier 1: Mouser; Supplier Part Number 1: 595-SN74F161ADR; Supplier 2: Digi-Key; Supplier Part Number 2: 296-14809-2-ND; Supplier 3: Digi-Key; Supplier Part Number 3: 296-14809-1-ND; Supplier 4: Digi-Key; Supplier Part Number 4: 296-14809-6-ND; Function: Counter; Operating Temperature Range(C): 0 to 70; Type: Binary; Code_JEDEC: MS-012 variation AC; ComponentLink1Description: Manufacturer URL; ComponentLink1URL: http://www.ti.com/; ComponentLink2Description: Datasheet; ComponentLink2URL: http://www.ti.com/lit/ds/symlink/sn74f161a.pdf; ComponentLink3Description: Package Specification; ComponentLink3URL: http://www.ti.com/lit/ml/mpds178g/mpds178g.pdf
footprint D0016A_N (SOIC, 16-Leads, Body 10x4mm, Pitch 1.27mm, IPC Medium Density)
footprint D0016A_M (SOIC, 16-Leads, Body 10x4mm, Pitch 1.27mm, IPC Low Density)
footprint D0016A_L (SOIC, 16-Leads, Body 10x4mm, Pitch 1.27mm, IPC High Density)
pins: 1 ~{CLR} (in), 2 CLK (in), 3 A (in), 4 B (in), 5 C (in), 6 D (in), 7 ENP (in), 8 GND (power), 9 ~{LOAD} (in), 10 ENT (in), 11 QD (out), 12 QC (out), 13 QB (out), 14 QA (out), 15 RCO (out), 16 VCC (power)

## SN74F161AN
designator U?
Synchronous 4-Bit Binary Counter, N0016A, TUBE; Generic Part Number: SN74F161A; Manufacturer: Texas Instruments; PartNumber: SN74F161AN; VCC(Min)(V): 4.5; VCC(Max)(V): 5.5; Inputs: 1; ICC @ Nom Voltage(Max)(mA): 55; Bits(#): 4; F @ Nom Voltage(Max)(Mhz): 70; Rating: Catalog; Technology Family: F; Output Drive (IOL/IOH)(Max)(mA): 20/-1; tpd @ Nom Voltage(Max)(ns): 15; DatasheetVersion: SDFS056B; PackageReference: N0016A; Supplier 1: Mouser; Supplier Part Number 1: 595-SN74F161AN; Supplier 2: Digi-Key; Supplier Part Number 2: 296-3558-5-ND; Function: Counter; Operating Temperature Range(C): 0 to 70; Type: Binary; Code_JEDEC: MS-001; ComponentLink1Description: Manufacturer URL; ComponentLink1URL: http://www.ti.com/; ComponentLink2Description: Datasheet; ComponentLink2URL: http://www.ti.com/lit/ds/symlink/sn74f161a.pdf; ComponentLink3Description: Package Specification; ComponentLink3URL: http://www.ti.com/lit/ml/mpdi002c/mpdi002c.pdf
footprint N0016A (DIP, 16-Leads, Body 19.7x6.6mm, Pitch 2.54mm)
pins: 1 ~{CLR} (in), 2 CLK (in), 3 A (in), 4 B (in), 5 C (in), 6 D (in), 7 ENP (in), 8 GND (power), 9 ~{LOAD} (in), 10 ENT (in), 11 QD (out), 12 QC (out), 13 QB (out), 14 QA (out), 15 RCO (out), 16 VCC (power)

## SN74F161ANSR
designator U?
Synchronous 4-Bit Binary Counter, NS0016A, LARGE T&R; Generic Part Number: SN74F161A; Manufacturer: Texas Instruments; PartNumber: SN74F161ANSR; VCC(Min)(V): 4.5; VCC(Max)(V): 5.5; Inputs: 1; ICC @ Nom Voltage(Max)(mA): 55; Bits(#): 4; F @ Nom Voltage(Max)(Mhz): 70; Rating: Catalog; Technology Family: F; Output Drive (IOL/IOH)(Max)(mA): 20/-1; tpd @ Nom Voltage(Max)(ns): 15; DatasheetVersion: SDFS056B; PackageReference: NS0016A; Supplier 1: Mouser; Supplier Part Number 1: 595-SN74F161ANSR; Supplier 2: Digi-Key; Supplier Part Number 2: 296-13185-2-ND; Supplier 3: Digi-Key; Supplier Part Number 3: 296-13185-1-ND; Supplier 4: Digi-Key; Supplier Part Number 4: 296-13185-6-ND; Function: Counter; Operating Temperature Range(C): 0 to 70; Type: Binary; ComponentLink1Description: Manufacturer URL; ComponentLink1URL: http://www.ti.com/; ComponentLink2Description: Datasheet; ComponentLink2URL: http://www.ti.com/lit/ds/symlink/sn74f161a.pdf; ComponentLink3Description: Package Specification; ComponentLink3URL: http://www.ti.com/lit/ml/msop002a/msop002a.pdf
footprint NS0016A_N (SOIC,16-Leads,Body 10.5x5.6mm,Pitch 1.27mm,IPC Medium Density)
footprint NS0016A_M (SOIC,16-Leads,Body 10.5x5.6mm,Pitch 1.27mm,IPC Low Density)
footprint NS0016A_L (SOIC,16-Leads,Body 10.5x5.6mm,Pitch 1.27mm,IPC High Density)
pins: 1 ~{CLR} (in), 2 CLK (in), 3 A (in), 4 B (in), 5 C (in), 6 D (in), 7 ENP (in), 8 GND (power), 9 ~{LOAD} (in), 10 ENT (in), 11 QD (out), 12 QC (out), 13 QB (out), 14 QA (out), 15 RCO (out), 16 VCC (power)

## SN74F163AD
designator U?
Synchronous 4-Bit Binary Counter, D0016A, TUBE; Generic Part Number: SN74F163A; Manufacturer: Texas Instruments; PartNumber: SN74F163AD; VCC(Min)(V): 4.5; VCC(Max)(V): 5.5; Inputs: 1; ICC @ Nom Voltage(Max)(mA): 55; Bits(#): 4; F @ Nom Voltage(Max)(Mhz): 70; Rating: Catalog; Technology Family: F; Output Drive (IOL/IOH)(Max)(mA): 20/-1; tpd @ Nom Voltage(Max)(ns): 15; DatasheetVersion: SDFS088A; PackageReference: D0016A; Supplier 1: Mouser; Supplier Part Number 1: 595-SN74F163AD; Supplier 2: Digi-Key; Supplier Part Number 2: 296-33895-5-ND; Function: Counter; Operating Temperature Range(C): 0 to 70; Type: Binary; Code_JEDEC: MS-012 variation AC; ComponentLink1Description: Manufacturer URL; ComponentLink1URL: http://www.ti.com/; ComponentLink2Description: Datasheet; ComponentLink2URL: http://www.ti.com/lit/ds/symlink/sn74f163a.pdf; ComponentLink3Description: Package Specification; ComponentLink3URL: http://www.ti.com/lit/ml/mpds178g/mpds178g.pdf
footprint D0016A_N (SOIC, 16-Leads, Body 10x4mm, Pitch 1.27mm, IPC Medium Density)
footprint D0016A_M (SOIC, 16-Leads, Body 10x4mm, Pitch 1.27mm, IPC Low Density)
footprint D0016A_L (SOIC, 16-Leads, Body 10x4mm, Pitch 1.27mm, IPC High Density)
pins: 1 ~{CLR} (in), 2 CLK (in), 3 A (in), 4 B (in), 5 C (in), 6 D (in), 7 ENP (in), 8 GND (power), 9 ~{LOAD} (in), 10 ENT (in), 11 QD (out), 12 QC (out), 13 QB (out), 14 QA (out), 15 RCO (out), 16 VCC (power)

## SN74F163ADR
designator U?
Synchronous 4-Bit Binary Counter, D0016A, LARGE T&R; Generic Part Number: SN74F163A; Manufacturer: Texas Instruments; PartNumber: SN74F163ADR; VCC(Min)(V): 4.5; VCC(Max)(V): 5.5; Inputs: 1; ICC @ Nom Voltage(Max)(mA): 55; Bits(#): 4; F @ Nom Voltage(Max)(Mhz): 70; Rating: Catalog; Technology Family: F; Output Drive (IOL/IOH)(Max)(mA): 20/-1; tpd @ Nom Voltage(Max)(ns): 15; DatasheetVersion: SDFS088A; PackageReference: D0016A; Supplier 1: Mouser; Supplier Part Number 1: 595-SN74F163ADR; Supplier 2: Digi-Key; Supplier Part Number 2: 296-3559-2-ND; Supplier 3: Digi-Key; Supplier Part Number 3: 296-3559-1-ND; Supplier 4: Digi-Key; Supplier Part Number 4: 296-3559-6-ND; Function: Counter; Operating Temperature Range(C): 0 to 70; Type: Binary; Code_JEDEC: MS-012 variation AC; ComponentLink1Description: Manufacturer URL; ComponentLink1URL: http://www.ti.com/; ComponentLink2Description: Datasheet; ComponentLink2URL: http://www.ti.com/lit/ds/symlink/sn74f163a.pdf; ComponentLink3Description: Package Specification; ComponentLink3URL: http://www.ti.com/lit/ml/mpds178g/mpds178g.pdf
footprint D0016A_N (SOIC, 16-Leads, Body 10x4mm, Pitch 1.27mm, IPC Medium Density)
footprint D0016A_M (SOIC, 16-Leads, Body 10x4mm, Pitch 1.27mm, IPC Low Density)
footprint D0016A_L (SOIC, 16-Leads, Body 10x4mm, Pitch 1.27mm, IPC High Density)
pins: 1 ~{CLR} (in), 2 CLK (in), 3 A (in), 4 B (in), 5 C (in), 6 D (in), 7 ENP (in), 8 GND (power), 9 ~{LOAD} (in), 10 ENT (in), 11 QD (out), 12 QC (out), 13 QB (out), 14 QA (out), 15 RCO (out), 16 VCC (power)

## SN74F163AN
designator U?
Synchronous 4-Bit Binary Counter, N0016A, TUBE; Generic Part Number: SN74F163A; Manufacturer: Texas Instruments; PartNumber: SN74F163AN; VCC(Min)(V): 4.5; VCC(Max)(V): 5.5; Inputs: 1; ICC @ Nom Voltage(Max)(mA): 55; Bits(#): 4; F @ Nom Voltage(Max)(Mhz): 70; Rating: Catalog; Technology Family: F; Output Drive (IOL/IOH)(Max)(mA): 20/-1; tpd @ Nom Voltage(Max)(ns): 15; DatasheetVersion: SDFS088A; PackageReference: N0016A; Supplier 1: Mouser; Supplier Part Number 1: 595-SN74F163AN; Supplier 2: Digi-Key; Supplier Part Number 2: 296-14810-5-ND; Function: Counter; Operating Temperature Range(C): 0 to 70; Type: Binary; Code_JEDEC: MS-001; ComponentLink1Description: Manufacturer URL; ComponentLink1URL: http://www.ti.com/; ComponentLink2Description: Datasheet; ComponentLink2URL: http://www.ti.com/lit/ds/symlink/sn74f163a.pdf; ComponentLink3Description: Package Specification; ComponentLink3URL: http://www.ti.com/lit/ml/mpdi002c/mpdi002c.pdf
footprint N0016A (DIP, 16-Leads, Body 19.7x6.6mm, Pitch 2.54mm)
pins: 1 ~{CLR} (in), 2 CLK (in), 3 A (in), 4 B (in), 5 C (in), 6 D (in), 7 ENP (in), 8 GND (power), 9 ~{LOAD} (in), 10 ENT (in), 11 QD (out), 12 QC (out), 13 QB (out), 14 QA (out), 15 RCO (out), 16 VCC (power)

## SN74F163ANSR
designator U?
Synchronous 4-Bit Binary Counter, NS0016A, LARGE T&R; Generic Part Number: SN74F163A; Manufacturer: Texas Instruments; PartNumber: SN74F163ANSR; VCC(Min)(V): 4.5; VCC(Max)(V): 5.5; Inputs: 1; ICC @ Nom Voltage(Max)(mA): 55; Bits(#): 4; F @ Nom Voltage(Max)(Mhz): 70; Rating: Catalog; Technology Family: F; Output Drive (IOL/IOH)(Max)(mA): 20/-1; tpd @ Nom Voltage(Max)(ns): 15; DatasheetVersion: SDFS088A; PackageReference: NS0016A; Supplier 1: Mouser; Supplier Part Number 1: 595-SN74F163ANSR; Supplier 2: Digi-Key; Supplier Part Number 2: SN74F163ANSR-ND; Function: Counter; Operating Temperature Range(C): 0 to 70; Type: Binary; ComponentLink1Description: Manufacturer URL; ComponentLink1URL: http://www.ti.com/; ComponentLink2Description: Datasheet; ComponentLink2URL: http://www.ti.com/lit/ds/symlink/sn74f163a.pdf; ComponentLink3Description: Package Specification; ComponentLink3URL: http://www.ti.com/lit/ml/msop002a/msop002a.pdf
footprint NS0016A_N (SOIC,16-Leads,Body 10.5x5.6mm,Pitch 1.27mm,IPC Medium Density)
footprint NS0016A_M (SOIC,16-Leads,Body 10.5x5.6mm,Pitch 1.27mm,IPC Low Density)
footprint NS0016A_L (SOIC,16-Leads,Body 10.5x5.6mm,Pitch 1.27mm,IPC High Density)
pins: 1 ~{CLR} (in), 2 CLK (in), 3 A (in), 4 B (in), 5 C (in), 6 D (in), 7 ENP (in), 8 GND (power), 9 ~{LOAD} (in), 10 ENT (in), 11 QD (out), 12 QC (out), 13 QB (out), 14 QA (out), 15 RCO (out), 16 VCC (power)

## SN74F251BD
designator U?
1-of-8 Data Selectors/Multiplexers With 3-State Outputs, D0016A, TUBE; Generic Part Number: SN74F251B; Manufacturer: Texas Instruments; PartNumber: SN74F251BD; VCC(Min)(V): 4.5; VCC(Max)(V): 5.5; Function: Encoder/Multiplexer; ICC @ Nom Voltage(Max)(mA): 24; F @ Nom Voltage(Max)(Mhz): 70; Configuration: 8：1; Channels(#): 1; Rating: Catalog; Technology Family: F; Voltage(Nom)(V): 5; Schmitt Trigger: No; Output Drive (IOL/IOH)(Max)(mA): 24/-3; tpd @ Nom Voltage(Max)(ns): 9.5; DatasheetVersion: SDFS066A; PackageReference: D0016A; Supplier 1: Mouser; Supplier Part Number 1: 595-SN74F251BD; Supplier 2: Digi-Key; Supplier Part Number 2: 296-33901-5-ND; Operating Temperature Range(C): 0 to 70; Type: 3-State Output; Code_JEDEC: MS-012 variation AC; ComponentLink1Description: Manufacturer URL; ComponentLink1URL: http://www.ti.com/; ComponentLink2Description: Datasheet; ComponentLink2URL: http://www.ti.com/lit/ds/symlink/sn74f251b.pdf; ComponentLink3Description: Package Specification; ComponentLink3URL: http://www.ti.com/lit/ml/mpds178g/mpds178g.pdf
footprint D0016A_N (SOIC, 16-Leads, Body 10x4mm, Pitch 1.27mm, IPC Medium Density)
footprint D0016A_M (SOIC, 16-Leads, Body 10x4mm, Pitch 1.27mm, IPC Low Density)
footprint D0016A_L (SOIC, 16-Leads, Body 10x4mm, Pitch 1.27mm, IPC High Density)
pins: 1 D3 (in), 2 D2 (in), 3 D1 (in), 4 D0 (in), 5 Y (hiz), 6 ~{W} (hiz), 7 ~{G} (in), 8 GND (power), 9 C (in), 10 B (in), 11 A (in), 12 D7 (in), 13 D6 (in), 14 D5 (in), 15 D4 (in), 16 VCC (power)

## SN74F251BDR
designator U?
1-of-8 Data Selectors/Multiplexers With 3-State Outputs, D0016A, LARGE T&R; Generic Part Number: SN74F251B; Manufacturer: Texas Instruments; PartNumber: SN74F251BDR; VCC(Min)(V): 4.5; VCC(Max)(V): 5.5; Function: Encoder/Multiplexer; ICC @ Nom Voltage(Max)(mA): 24; F @ Nom Voltage(Max)(Mhz): 70; Configuration: 8：1; Channels(#): 1; Rating: Catalog; Technology Family: F; Voltage(Nom)(V): 5; Schmitt Trigger: No; Output Drive (IOL/IOH)(Max)(mA): 24/-3; tpd @ Nom Voltage(Max)(ns): 9.5; DatasheetVersion: SDFS066A; PackageReference: D0016A; Supplier 1: Mouser; Supplier Part Number 1: 595-SN74F251BDR; Supplier 2: Digi-Key; Supplier Part Number 2: 296-14814-2-ND; Supplier 3: Digi-Key; Supplier Part Number 3: 296-14814-1-ND; Supplier 4: Digi-Key; Supplier Part Number 4: 296-14814-6-ND; Operating Temperature Range(C): 0 to 70; Type: 3-State Output; Code_JEDEC: MS-012 variation AC; ComponentLink1Description: Manufacturer URL; ComponentLink1URL: http://www.ti.com/; ComponentLink2Description: Datasheet; ComponentLink2URL: http://www.ti.com/lit/ds/symlink/sn74f251b.pdf; ComponentLink3Description: Package Specification; ComponentLink3URL: http://www.ti.com/lit/ml/mpds178g/mpds178g.pdf
footprint D0016A_N (SOIC, 16-Leads, Body 10x4mm, Pitch 1.27mm, IPC Medium Density)
footprint D0016A_M (SOIC, 16-Leads, Body 10x4mm, Pitch 1.27mm, IPC Low Density)
footprint D0016A_L (SOIC, 16-Leads, Body 10x4mm, Pitch 1.27mm, IPC High Density)
pins: 1 D3 (in), 2 D2 (in), 3 D1 (in), 4 D0 (in), 5 Y (hiz), 6 ~{W} (hiz), 7 ~{G} (in), 8 GND (power), 9 C (in), 10 B (in), 11 A (in), 12 D7 (in), 13 D6 (in), 14 D5 (in), 15 D4 (in), 16 VCC (power)

## SN74F251BN
designator U?
1-of-8 Data Selectors/Multiplexers With 3-State Outputs, N0016A, TUBE; Generic Part Number: SN74F251B; Manufacturer: Texas Instruments; PartNumber: SN74F251BN; VCC(Min)(V): 4.5; VCC(Max)(V): 5.5; Function: Encoder/Multiplexer; ICC @ Nom Voltage(Max)(mA): 24; F @ Nom Voltage(Max)(Mhz): 70; Configuration: 8：1; Channels(#): 1; Rating: Catalog; Technology Family: F; Voltage(Nom)(V): 5; Schmitt Trigger: No; Output Drive (IOL/IOH)(Max)(mA): 24/-3; tpd @ Nom Voltage(Max)(ns): 9.5; DatasheetVersion: SDFS066A; PackageReference: N0016A; Supplier 1: Mouser; Supplier Part Number 1: 595-SN74F251BN; Supplier 2: Digi-Key; Supplier Part Number 2: 296-33902-5-ND; Operating Temperature Range(C): 0 to 70; Type: 3-State Output; Code_JEDEC: MS-001; ComponentLink1Description: Manufacturer URL; ComponentLink1URL: http://www.ti.com/; ComponentLink2Description: Datasheet; ComponentLink2URL: http://www.ti.com/lit/ds/symlink/sn74f251b.pdf; ComponentLink3Description: Package Specification; ComponentLink3URL: http://www.ti.com/lit/ml/mpdi002c/mpdi002c.pdf
footprint N0016A (DIP, 16-Leads, Body 19.7x6.6mm, Pitch 2.54mm)
pins: 1 D3 (in), 2 D2 (in), 3 D1 (in), 4 D0 (in), 5 Y (hiz), 6 ~{W} (hiz), 7 ~{G} (in), 8 GND (power), 9 C (in), 10 B (in), 11 A (in), 12 D7 (in), 13 D6 (in), 14 D5 (in), 15 D4 (in), 16 VCC (power)